# Altium schematic symbol library USB-AM-S-F-B-TH.Schlib: 1 symbol
Pins are listed as number, name and electrical type; pins without a type are passive.

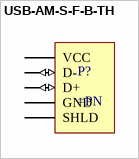
[diagram p0: symbol USB-AM-S-F-B-TH]

## USB-AM-S-F-B-TH
designator P?
USB-A USB 2.0 Plug Through Hole, Right Angle
pins: 1 VCC (power), 2 D- (io), 3 D+ (io), 4 GND (power), 5 SHLD